# EAGLE library part LTC4365 (library Volks73-LinearTechnology)
Overvoltage, Undervoltage and Reverse Supply Protection Controller Application Power Protection Documentation Datasheet <http://cds.linear.com/docs/en/datasheet/4365fa.pdf> General Description The LTC®4365 protects applications where power supply input voltages may be too high, too low or even negative. It does this by controlling the gate voltages of a pair of external N-channel MOSFETs to ensure that the output stays within a safe operating range.The LTC4365 can withstand voltages between –40V and 60V and has an operating range of 2.5V to 34V, while consuming only 125µA in normal operation. Two comparator inputs allow configuration of the overvoltage (OV) and undervoltage (UV) set points using an external resistive divider.Ashutdown pin provides external control for enabling and disabling the MOSFETs as well as placing the device in a low current shutdown state. A fault output provides status of the gate pin pulling low. A fault is indicated when the part is in shutdown or the input voltage is outside the UV and OV set points. The LTC4365 has a 36ms turn-on delay that debounces live connections and blocks 50Hz to 60Hz AC power. For fast recovery after faults, the LTC4365-1 has a reduced 1ms turn-on delay. Features Wide Operating Voltage Range: 2.5V to 34V Overvoltage Protection to 60V Reverse Supply Protection to -40V LTC5364: Blocks 50Hz and 60Hz AC Power LTC4356-1: Fast (1ms) Recovery from Fault No Input Capacitor or TVS Required for Most Applications Adjustable Undervoltage and Overvoltage Protection Range Charge Pump Enhances External N-Channel MOSFET Low Operating Current: 125uA Low Shutdown Current: 10uA Compact 8-Lead, 3mm x 2mm DFN and TSOT-23 (ThinSOT) Packages Applications Portable Instrumentation Industrial Automation Laptops Automotive Surge Protection
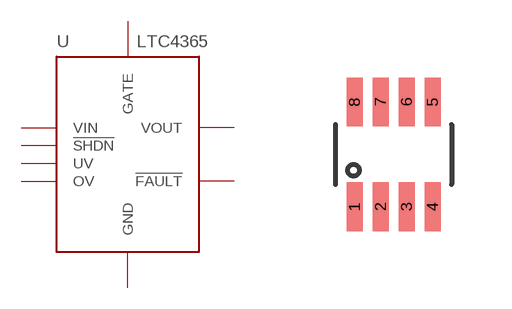
[diagram p0: symbol with the pads of TSOT-23-8; footprint TSOT-23-8]

Designator prefix U

## LTC4365 (APPLICATIONS: Overvoltage, Undervoltage Protection; CATEGORY: Integrated Circuits (ICs); CURRENT-SUPPLY: 125uA; DESCRIPTION: IC OVERVOLTAGE PROT TSOT23-8; DOCUMENTATION_LINK: <a href="http://cds.linear.com/docs/en/datasheet/4365fa.pdf">Datasheet</a>; DOCUMENTATION_URL: http://cds.linear.com/docs/en/datasheet/4365fa.pdf; FAMILY: PMIC - Power Management - Specialized; MANUFACTURER: Linear Technology; MOUNTING_TYPE: Surface Mount; OPERATING_TEMPERATURE: 0C ~ 70C; PACKAGE-CASE: SOT-23-8 Thin, TSOT-23-8; PART_NUMBER: LTC4365CTS8#TRMPBF; SERIES: -; SUPPLIER_DEVICE_PACKAGE: SOT-23-8; SUPPLIER_ITEM_INFO: http://www.digikey.com/product-detail/en/LTC4365CTS8%23TRMPBF/LTC4365CTS8%23TRMPBFCT-ND/2404677; SUPPLIER_ITEM_LINK: <a href="http://www.digikey.com/product-detail/en/LTC4365CTS8%23TRMPBF/LTC4365CTS8%23TRMPBFCT-ND/2404677">Details</a>; SUPPLIER_ITEM_NUMBER: LTC4365CTS8#TRMPBFCT-ND; SUPPLIER_ITEM_URL: http://www.digikey.com/product-detail/en/LTC4365CTS8%23TRMPBF/LTC4365CTS8%23TRMPBFCT-ND/2404677; SUPPLIER_LINK: <a href="http://www.digikey.com">Home Page</a>; SUPPLIER_NAME: Digi-Key; SUPPLIER_URL: http://www.digikey.com; VOLTAGE-SUPPLY: 2.5V ~ 34V)  [TSOT-23-8]
1  VIN  in
2  UV  in
3  OV  in
4  GND  pwr
5  !SHDN  in
6  !FAULT  out
7  VOUT  pwr
8  GATE  out

## Footprint TSOT-23-8 (pad centres in mm)
8-Pin SOT-23 Thin Thin Small Outline Transistor (SOT-23) with 8-Pins
smd 0.4 x 1.22: 1 -0.975,-1.31; 2 -0.325,-1.31; 3 0.325,-1.31; 4 0.975,-1.31; 5 0.975,1.31; 6 0.325,1.31; 7 -0.325,1.31; 8 -0.975,1.31